# Altium footprint library Z80Console.PcbLib: 1 footprints
Each footprint in its own frame and in the unit in brackets; x right, y up, seen from the top. Pads: shape width x height; smd on the part's side, far side on the other; paste and mask are expansions set on the pad; w line width, h text height; cw(c..) or ccw(c..) is an arc to the next point about the centre after c.
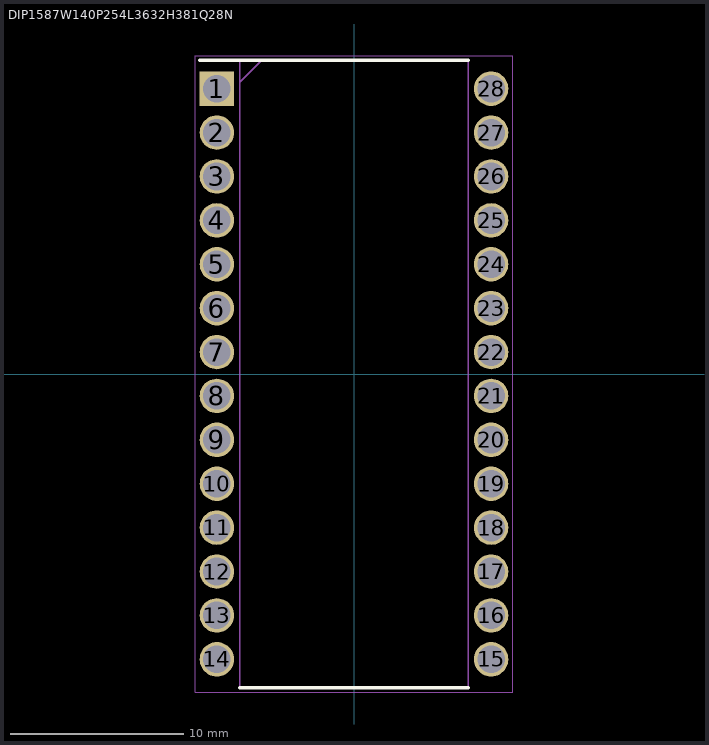
[diagram p0: the footprint, top view; thin cyan lines are the x and y axes]

## DIP1587W140P254L3632H381Q28N [mm]
pads (28):
  rect 1.997x1.997 hole 1.597: 1(-7.935,16.51)
  round 1.997 hole 1.597: 2(-7.935,13.97) 3(-7.935,11.43) 4(-7.935,8.89) 5(-7.935,6.35) 6(-7.935,3.81) 7(-7.935,1.27) 8(-7.935,-1.27) 9(-7.935,-3.81) 10(-7.935,-6.35) 11(-7.935,-8.89) 12(-7.935,-11.43) 13(-7.935,-13.97) 14(-7.935,-16.51) 15(7.935,-16.51) 16(7.935,-13.97) 17(7.935,-11.43) 18(7.935,-8.89) 19(7.935,-6.35) 20(7.935,-3.81) 21(7.935,-1.27) 22(7.935,1.27) 23(7.935,3.81) 24(7.935,6.35) 25(7.935,8.89) 26(7.935,11.43) 27(7.935,13.97) 28(7.935,16.51)
Top Overlay:
  lines w0.2: -8.934,18.161 6.604,18.161 ; -6.604,-18.161 6.604,-18.161
Mechanical 13:
  lines w0.1: -6.604,16.891 -5.334,18.161 ; -6.604,-18.161 6.604,-18.161 6.604,18.161 -6.604,18.161 -6.604,-18.161
Mechanical 15:
  lines w0.05: -9.184,-18.411 9.184,-18.411 9.184,18.411 -9.184,18.411 -9.184,-18.411
3D body "AS6C62256-55PCN.stp": height 3.81, standoff -3.5, extent -8.284,-18.161 8.284,18.161